# Altium footprint library SOIC_127P_N.PcbLib: 49 footprints (part 2 of 4)
Each footprint in its own frame and in the unit in brackets; x right, y up, seen from the top. Pads: shape width x height; smd on the part's side, far side on the other; paste and mask are expansions set on the pad; w line width, h text height; cw(c..) or ccw(c..) is an arc to the next point about the centre after c.
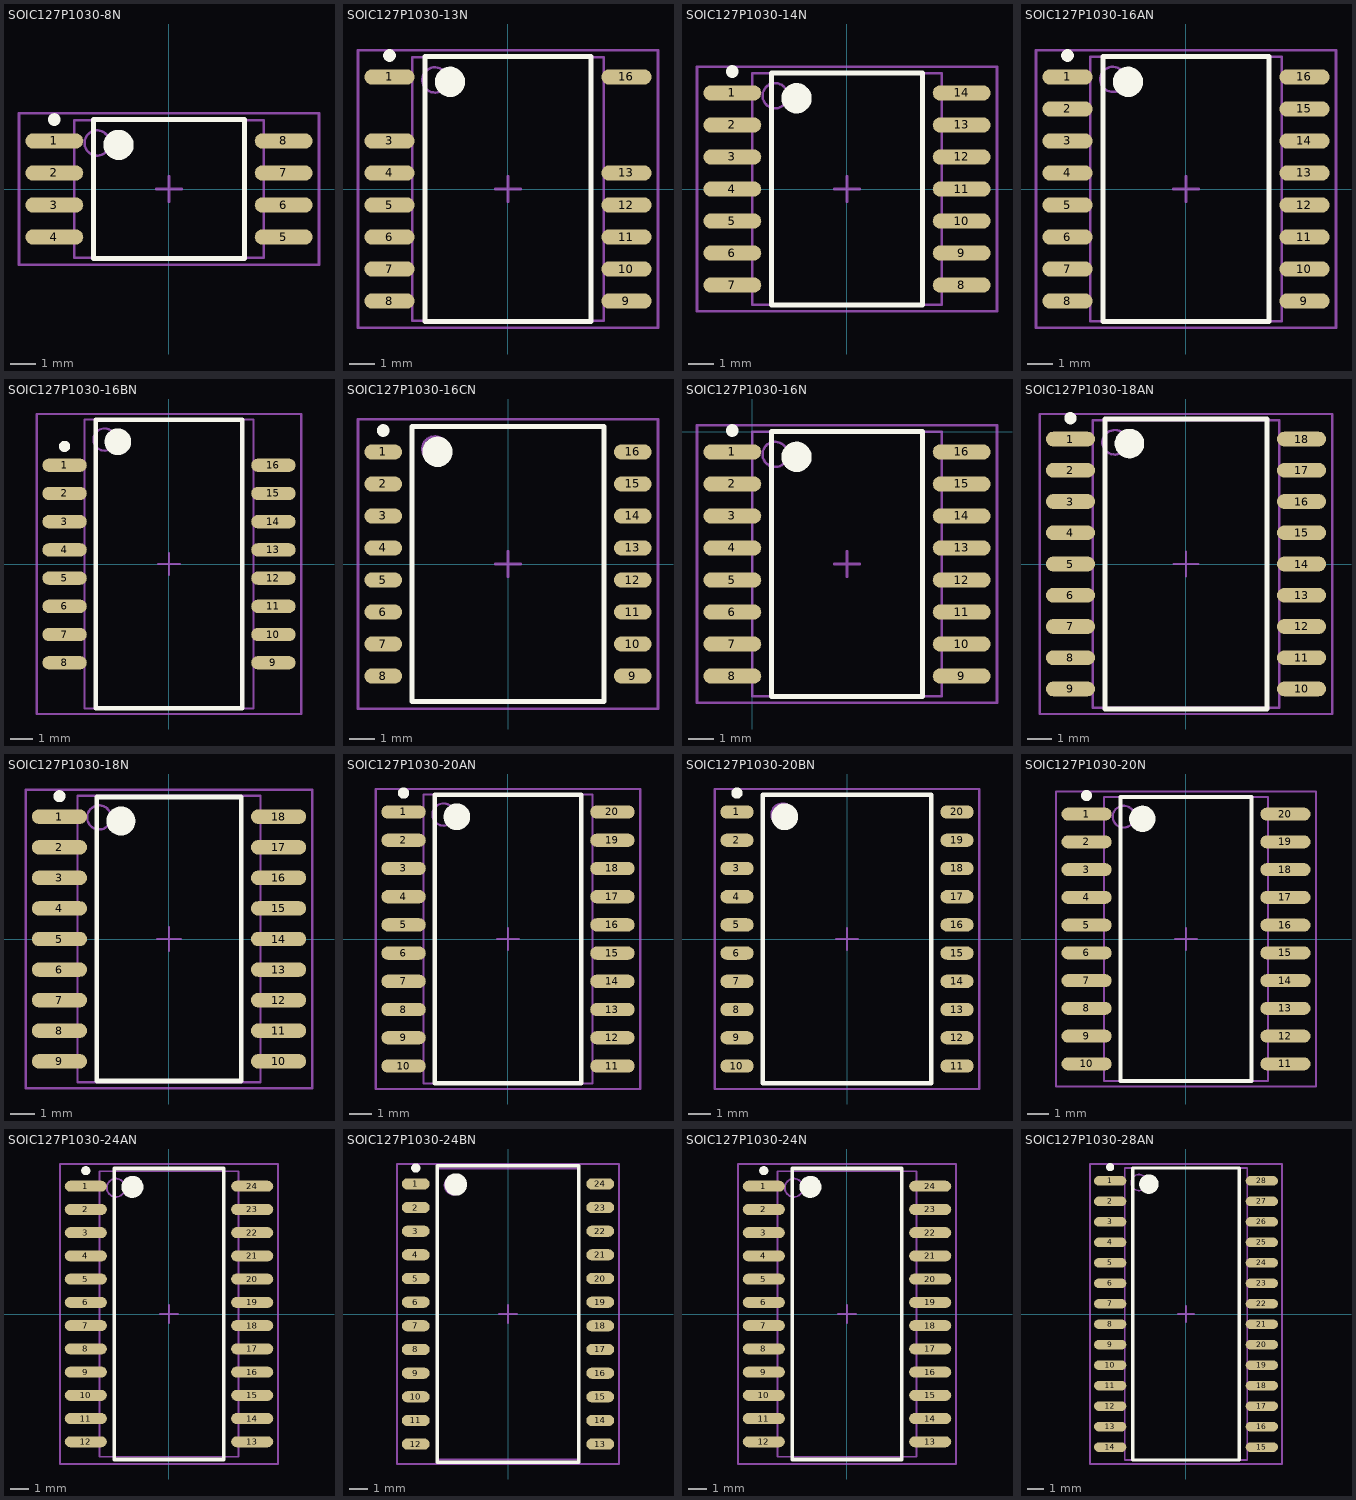
[diagram p1: the footprints below, top view; thin cyan lines are the x and y axes]

## SOIC127P1030-8N [mm] "SOIC, 8-Leads, Body 5.3x7.5mm, Pitch 1.27mm, IPC Medium Density"
height 2.65
pads (8):
  oval 2.3x0.6 smd: 1(-4.55,1.905) 2(-4.55,0.635) 3(-4.55,-0.635) 4(-4.55,-1.905) 5(4.55,-1.905) 6(4.55,-0.635) 7(4.55,0.635) 8(4.55,1.905)
Top Overlay:
  circle w0.6: c-2,1.75 r0.3
  circle w0.25: c-4.55,2.755 r0.125
  lines w0.2: -3,-2.75 3,-2.75 3,2.75 -3,2.75 -3,-2.75
Mechanical 13:
  circle w0.1: c-2.85,1.825 r0.5
  lines w0.1: -3.75,-2.725 3.75,-2.725 3.75,2.725 -3.75,2.725 -3.75,-2.725
Mechanical 15:
  lines w0.1: -0.5,0 0.5,0 ; 0,-0.5 0,0.5 ; -5.95,-3 5.95,-3 5.95,3 -5.95,3 -5.95,-3
3D body: height 2.65, standoff 0, extent -3.75,-2.725 3.75,2.725

## SOIC127P1030-13N [mm] "SOIC, 16-Leads (3 Absent), Body 10.3x7.5 mm, Pitch 1.27mm, IPC Medium Density"
height 2.65
pads (13):
  oval 2x0.6 smd: 1(-4.7,4.445) 3(-4.7,1.905) 4(-4.7,0.635) 5(-4.7,-0.635) 6(-4.7,-1.905) 7(-4.7,-3.175) 8(-4.7,-4.445) 9(4.7,-4.445) 10(4.7,-3.175) 11(4.7,-1.905) 12(4.7,-0.635) 13(4.7,0.635) 16(4.7,4.445)
Top Overlay:
  circle w0.25: c-4.7,5.295 r0.125
  circle w0.6: c-2.3,4.25 r0.3
  lines w0.2: -3.3,-5.25 -3.3,5.25 3.3,5.25 3.3,-5.25 -3.3,-5.25
Mechanical 13:
  circle w0.1: c-2.9,4.325 r0.5
  lines w0.1: -3.8,-5.225 -3.8,5.225 3.8,5.225 3.8,-5.225 -3.8,-5.225
Mechanical 15:
  lines w0.1: -0.5,0 0.5,0 ; 0,-0.5 0,0.5 ; -5.95,-5.5 -5.95,5.5 5.95,5.5 5.95,-5.5 -5.95,-5.5
3D body: height 2.65, standoff 0, extent -3.8,-5.225 3.8,5.225

## SOIC127P1030-14N [mm] "SOIC, 14-Leads, Body 9x7.5mm, Pitch 1.27mm, IPC Medium Density"
height 2.65
pads (14):
  oval 2.3x0.6 smd: 1(-4.55,3.81) 2(-4.55,2.54) 3(-4.55,1.27) 4(-4.55,0) 5(-4.55,-1.27) 6(-4.55,-2.54) 7(-4.55,-3.81) 8(4.55,-3.81) 9(4.55,-2.54) 10(4.55,-1.27) 11(4.55,0) 12(4.55,1.27) 13(4.55,2.54) 14(4.55,3.81)
Top Overlay:
  circle w0.25: c-4.55,4.66 r0.125
  circle w0.6: c-2,3.6 r0.3
  lines w0.2: -3,-4.6 -3,4.6 3,4.6 3,-4.6 -3,-4.6
Mechanical 13:
  circle w0.1: c-2.85,3.7 r0.5
  lines w0.1: -3.75,-4.6 -3.75,4.6 3.75,4.6 3.75,-4.6 -3.75,-4.6
Mechanical 15:
  lines w0.1: -0.5,0 0.5,0 ; 0,-0.5 0,0.5 ; -5.95,-4.85 -5.95,4.85 5.95,4.85 5.95,-4.85 -5.95,-4.85
3D body: height 2.65, standoff 0, extent -3.75,-4.6 3.75,4.6

## SOIC127P1030-16AN [mm] "SOIC, 16-Leads, Body 10.3x7.5mm, Pitch 1.27mm, IPC Medium Density"
height 2.67
pads (16):
  oval 2x0.6 smd: 1(-4.7,4.445) 2(-4.7,3.175) 3(-4.7,1.905) 4(-4.7,0.635) 5(-4.7,-0.635) 6(-4.7,-1.905) 7(-4.7,-3.175) 8(-4.7,-4.445) 9(4.7,-4.445) 10(4.7,-3.175) 11(4.7,-1.905) 12(4.7,-0.635) 13(4.7,0.635) 14(4.7,1.905) 15(4.7,3.175) 16(4.7,4.445)
Top Overlay:
  circle w0.25: c-4.7,5.295 r0.125
  circle w0.6: c-2.3,4.25 r0.3
  lines w0.2: -3.3,-5.25 -3.3,5.25 3.3,5.25 3.3,-5.25 -3.3,-5.25
Mechanical 13:
  circle w0.1: c-2.9,4.35 r0.5
  lines w0.1: -3.8,-5.25 -3.8,5.25 3.8,5.25 3.8,-5.25 -3.8,-5.25
Mechanical 15:
  lines w0.1: -0.5,0 0.5,0 ; 0,-0.5 0,0.5 ; -5.95,-5.5 -5.95,5.5 5.95,5.5 5.95,-5.5 -5.95,-5.5
3D body: height 2.67, standoff 0, extent -3.8,-5.25 3.8,5.25

## SOIC127P1030-16BN [mm] "SOIC, 16-Leads, Body 12.8x7.5mm, Pitch 1.27mm, IPC Medium Density"
height 2.68
pads (16):
  oval 2x0.6 smd: 1(-4.7,4.445) 2(-4.7,3.175) 3(-4.7,1.905) 4(-4.7,0.635) 5(-4.7,-0.635) 6(-4.7,-1.905) 7(-4.7,-3.175) 8(-4.7,-4.445) 9(4.7,-4.445) 10(4.7,-3.175) 11(4.7,-1.905) 12(4.7,-0.635) 13(4.7,0.635) 14(4.7,1.905) 15(4.7,3.175) 16(4.7,4.445)
Top Overlay:
  circle w0.6: c-2.3,5.5 r0.3
  circle w0.25: c-4.7,5.295 r0.125
  lines w0.2: -3.3,-6.5 3.3,-6.5 3.3,6.5 -3.3,6.5 -3.3,-6.5
Mechanical 13:
  circle w0.1: c-2.9,5.6 r0.5
  lines w0.1: -3.8,-6.5 3.8,-6.5 3.8,6.5 -3.8,6.5 -3.8,-6.5
Mechanical 15:
  lines w0.1: -0.5,0 0.5,0 ; 0,-0.5 0,0.5 ; -5.95,-6.75 5.95,-6.75 5.95,6.75 -5.95,6.75 -5.95,-6.75
3D body: height 2.68, standoff 0, extent -3.8,-6.5 3.8,6.5

## SOIC127P1030-16CN [mm] "SOIC, 16-Leads, Body 10.5x7.5mm, Pitch 1.27mm, IPC Medium Density"
height 2.65
pads (16):
  oval 1.5x0.6 smd: 1(-4.95,4.445) 2(-4.95,3.175) 3(-4.95,1.905) 4(-4.95,0.635) 5(-4.95,-0.635) 6(-4.95,-1.905) 7(-4.95,-3.175) 8(-4.95,-4.445) 9(4.95,-4.445) 10(4.95,-3.175) 11(4.95,-1.905) 12(4.95,-0.635) 13(4.95,0.635) 14(4.95,1.905) 15(4.95,3.175) 16(4.95,4.445)
Top Overlay:
  circle w0.25: c-4.95,5.295 r0.125
  circle w0.6: c-2.8,4.45 r0.3
  lines w0.2: -3.8,-5.45 -3.8,5.45 3.8,5.45 3.8,-5.45 -3.8,-5.45
Mechanical 13:
  circle w0.1: c-2.9,4.56 r0.5
  lines w0.1: -3.8,-5.46 -3.8,5.46 3.8,5.46 3.8,-5.46 -3.8,-5.46
Mechanical 15:
  lines w0.1: -0.5,0 0.5,0 ; 0,-0.5 0,0.5 ; -5.95,-5.75 -5.95,5.75 5.95,5.75 5.95,-5.75 -5.95,-5.75
3D body: height 2.65, standoff 0, extent -3.8,-5.46 3.8,5.46

## SOIC127P1030-16N [mm] "SOIC, 16-Leads, Body 10.3x7.5mm, Pitch 1.27mm, IPC Medium Density"
height 2.65
pads (16):
  oval 2.3x0.6 smd: 1(-0.8,-0.8) 2(-0.8,-2.07) 3(-0.8,-3.34) 4(-0.8,-4.61) 5(-0.8,-5.88) 6(-0.8,-7.15) 7(-0.8,-8.42) 8(-0.8,-9.69) 9(8.3,-9.69) 10(8.3,-8.42) 11(8.3,-7.15) 12(8.3,-5.88) 13(8.3,-4.61) 14(8.3,-3.34) 15(8.3,-2.07) 16(8.3,-0.8)
Top Overlay:
  circle w0.6: c1.75,-0.995 r0.3
  circle w0.25: c-0.8,0.05 r0.125
  lines w0.2: 0.75,-10.495 6.75,-10.495 6.75,0.005 0.75,0.005 0.75,-10.495
Mechanical 13:
  circle w0.1: c0.9,-0.895 r0.5
  lines w0.1: 0,-10.495 7.5,-10.495 7.5,0.005 0,0.005 0,-10.495
Mechanical 15:
  lines w0.1: 3.25,-5.245 4.25,-5.245 ; 3.75,-5.745 3.75,-4.745 ; -2.2,-10.745 9.7,-10.745 9.7,0.255 -2.2,0.255 -2.2,-10.745
3D body: height 2.65, standoff 0, extent 0,-10.495 7.5,0.005

## SOIC127P1030-18AN [mm] "SOIC, 18-Leads, Body 11.6x7.5mm, Pitch 1.27mm, IPC Medium Density"
height 2.65
pads (18):
  oval 2x0.6 smd: 1(-4.7,5.08) 2(-4.7,3.81) 3(-4.7,2.54) 4(-4.7,1.27) 5(-4.7,0) 6(-4.7,-1.27) 7(-4.7,-2.54) 8(-4.7,-3.81) 9(-4.7,-5.08) 10(4.7,-5.08) 11(4.7,-3.81) 12(4.7,-2.54) 13(4.7,-1.27) 14(4.7,0) 15(4.7,1.27) 16(4.7,2.54) 17(4.7,3.81) 18(4.7,5.08)
Top Overlay:
  circle w0.6: c-2.3,4.9 r0.3
  circle w0.25: c-4.7,5.93 r0.125
  lines w0.2: -3.3,-5.9 3.3,-5.9 3.3,5.9 -3.3,5.9 -3.3,-5.9
Mechanical 13:
  circle w0.1: c-2.9,4.95 r0.5
  lines w0.1: -3.8,-5.85 3.8,-5.85 3.8,5.85 -3.8,5.85 -3.8,-5.85
Mechanical 15:
  lines w0.1: -0.5,0 0.5,0 ; 0,-0.5 0,0.5 ; -5.95,-6.1 5.95,-6.1 5.95,6.1 -5.95,6.1 -5.95,-6.1
3D body: height 2.65, standoff 0, extent -3.8,-5.85 3.8,5.85

## SOIC127P1030-18N [mm] "SOIC, 18-Leads, Body 11.6x7.5mm, Pitch 1.27mm, IPC Medium Density"
height 2.65
pads (18):
  oval 2.3x0.6 smd: 1(-4.55,5.08) 2(-4.55,3.81) 3(-4.55,2.54) 4(-4.55,1.27) 5(-4.55,0) 6(-4.55,-1.27) 7(-4.55,-2.54) 8(-4.55,-3.81) 9(-4.55,-5.08) 10(4.55,-5.08) 11(4.55,-3.81) 12(4.55,-2.54) 13(4.55,-1.27) 14(4.55,0) 15(4.55,1.27) 16(4.55,2.54) 17(4.55,3.81) 18(4.55,5.08)
Top Overlay:
  circle w0.6: c-2,4.9 r0.3
  circle w0.25: c-4.55,5.93 r0.125
  lines w0.2: -3,-5.9 3,-5.9 3,5.9 -3,5.9 -3,-5.9
Mechanical 13:
  circle w0.1: c-2.9,5.05 r0.5
  lines w0.1: -3.8,-5.95 3.8,-5.95 3.8,5.95 -3.8,5.95 -3.8,-5.95
Mechanical 15:
  lines w0.1: -0.5,0 0.5,0 ; 0,-0.5 0,0.5 ; -5.95,-6.2 5.95,-6.2 5.95,6.2 -5.95,6.2 -5.95,-6.2
3D body: height 2.65, standoff 0, extent -3.8,-5.95 3.8,5.95

## SOIC127P1030-20AN [mm] "SOIC, 20-Leads, Body 12.8x7.5mm, Pitch 1.27mm, IPC Medium Density"
height 2.67
pads (20):
  oval 2x0.6 smd: 1(-4.7,5.715) 2(-4.7,4.445) 3(-4.7,3.175) 4(-4.7,1.905) 5(-4.7,0.635) 6(-4.7,-0.635) 7(-4.7,-1.905) 8(-4.7,-3.175) 9(-4.7,-4.445) 10(-4.7,-5.715) 11(4.7,-5.715) 12(4.7,-4.445) 13(4.7,-3.175) 14(4.7,-1.905) 15(4.7,-0.635) 16(4.7,0.635) 17(4.7,1.905) 18(4.7,3.175) 19(4.7,4.445) 20(4.7,5.715)
Top Overlay:
  circle w0.6: c-2.3,5.5 r0.3
  circle w0.25: c-4.7,6.565 r0.125
  lines w0.2: -3.3,-6.5 3.3,-6.5 3.3,6.5 -3.3,6.5 -3.3,-6.5
Mechanical 13:
  circle w0.1: c-2.9,5.6 r0.5
  lines w0.1: -3.8,-6.5 3.8,-6.5 3.8,6.5 -3.8,6.5 -3.8,-6.5
Mechanical 15:
  lines w0.1: -0.5,0 0.5,0 ; 0,-0.5 0,0.5 ; -5.95,-6.75 5.95,-6.75 5.95,6.75 -5.95,6.75 -5.95,-6.75
3D body: height 2.67, standoff 0, extent -3.8,-6.5 3.8,6.5

## SOIC127P1030-20BN [mm] "SOIC, 20-Leads, Body 12.8x7.5mm, Pitch 1.27mm, IPC Medium Density"
height 2.65
pads (20):
  oval 1.5x0.6 smd: 1(-4.95,5.715) 2(-4.95,4.445) 3(-4.95,3.175) 4(-4.95,1.905) 5(-4.95,0.635) 6(-4.95,-0.635) 7(-4.95,-1.905) 8(-4.95,-3.175) 9(-4.95,-4.445) 10(-4.95,-5.715) 11(4.95,-5.715) 12(4.95,-4.445) 13(4.95,-3.175) 14(4.95,-1.905) 15(4.95,-0.635) 16(4.95,0.635) 17(4.95,1.905) 18(4.95,3.175) 19(4.95,4.445) 20(4.95,5.715)
Top Overlay:
  circle w0.6: c-2.8,5.5 r0.3
  circle w0.25: c-4.95,6.565 r0.125
  lines w0.2: -3.8,-6.5 3.8,-6.5 3.8,6.5 -3.8,6.5 -3.8,-6.5
Mechanical 13:
  circle w0.1: c-2.9,5.6 r0.5
  lines w0.1: -3.8,-6.5 3.8,-6.5 3.8,6.5 -3.8,6.5 -3.8,-6.5
Mechanical 15:
  lines w0.1: -0.5,0 0.5,0 ; 0,-0.5 0,0.5 ; -5.95,-6.75 5.95,-6.75 5.95,6.75 -5.95,6.75 -5.95,-6.75
3D body: height 2.65, standoff 0, extent -3.8,-6.5 3.8,6.5

## SOIC127P1030-20N [mm] "SOIC, 20-Leads, Body 12.8x7.5mm, Pitch 1.27mm, IPC Medium Density"
height 2.65
pads (20):
  oval 2.3x0.6 smd: 1(-4.55,5.715) 2(-4.55,4.445) 3(-4.55,3.175) 4(-4.55,1.905) 5(-4.55,0.635) 6(-4.55,-0.635) 7(-4.55,-1.905) 8(-4.55,-3.175) 9(-4.55,-4.445) 10(-4.55,-5.715) 11(4.55,-5.715) 12(4.55,-4.445) 13(4.55,-3.175) 14(4.55,-1.905) 15(4.55,-0.635) 16(4.55,0.635) 17(4.55,1.905) 18(4.55,3.175) 19(4.55,4.445) 20(4.55,5.715)
Top Overlay:
  circle w0.25: c-4.55,6.565 r0.125
  circle w0.6: c-2,5.5 r0.3
  lines w0.2: -3,-6.5 -3,6.5 3,6.5 3,-6.5 -3,-6.5
Mechanical 13:
  circle w0.1: c-2.85,5.6 r0.5
  lines w0.1: -3.75,-6.5 -3.75,6.5 3.75,6.5 3.75,-6.5 -3.75,-6.5
Mechanical 15:
  lines w0.1: -0.5,0 0.5,0 ; 0,-0.5 0,0.5 ; -5.95,-6.75 -5.95,6.75 5.95,6.75 5.95,-6.75 -5.95,-6.75
3D body: height 2.65, standoff 0, extent -3.75,-6.5 3.75,6.5

## SOIC127P1030-24AN [mm] "SOIC, 24-Leads, Body 15.4x7.5mm, Pitch 1.27mm, IPC Medium Density"
height 2.65
pads (24):
  oval 2.3x0.6 smd: 1(-4.55,6.985) 2(-4.55,5.715) 3(-4.55,4.445) 4(-4.55,3.175) 5(-4.55,1.905) 6(-4.55,0.635) 7(-4.55,-0.635) 8(-4.55,-1.905) 9(-4.55,-3.175) 10(-4.55,-4.445) 11(-4.55,-5.715) 12(-4.55,-6.985) 13(4.55,-6.985) 14(4.55,-5.715) 15(4.55,-4.445) 16(4.55,-3.175) 17(4.55,-1.905) 18(4.55,-0.635) 19(4.55,0.635) 20(4.55,1.905) 21(4.55,3.175) 22(4.55,4.445) 23(4.55,5.715) 24(4.55,6.985)
Top Overlay:
  circle w0.6: c-2,6.95 r0.3
  circle w0.25: c-4.55,7.835 r0.125
  lines w0.2: -3,-7.95 3,-7.95 3,7.95 -3,7.95 -3,-7.95
Mechanical 13:
  circle w0.1: c-2.9,6.9 r0.5
  lines w0.1: -3.8,-7.8 3.8,-7.8 3.8,7.8 -3.8,7.8 -3.8,-7.8
Mechanical 15:
  lines w0.1: -0.5,0 0.5,0 ; 0,-0.5 0,0.5 ; -5.95,-8.2 5.95,-8.2 5.95,8.2 -5.95,8.2 -5.95,-8.2
3D body: height 2.65, standoff 0, extent -3.8,-7.8 3.8,7.8

## SOIC127P1030-24BN [mm] "SOIC, 24-Leads, Body 15.4x7.5mm, Pitch 1.27mm, IPC Medium Density"
height 2.65
pads (24):
  oval 1.5x0.6 smd: 1(-4.95,6.985) 2(-4.95,5.715) 3(-4.95,4.445) 4(-4.95,3.175) 5(-4.95,1.905) 6(-4.95,0.635) 7(-4.95,-0.635) 8(-4.95,-1.905) 9(-4.95,-3.175) 10(-4.95,-4.445) 11(-4.95,-5.715) 12(-4.95,-6.985) 13(4.95,-6.985) 14(4.95,-5.715) 15(4.95,-4.445) 16(4.95,-3.175) 17(4.95,-1.905) 18(4.95,-0.635) 19(4.95,0.635) 20(4.95,1.905) 21(4.95,3.175) 22(4.95,4.445) 23(4.95,5.715) 24(4.95,6.985)
Top Overlay:
  circle w0.6: c-2.8,6.95 r0.3
  circle w0.25: c-4.95,7.835 r0.125
  lines w0.2: -3.8,-7.95 3.8,-7.95 3.8,7.95 -3.8,7.95 -3.8,-7.95
Mechanical 13:
  circle w0.1: c-2.9,6.9 r0.5
  lines w0.1: -3.8,-7.8 3.8,-7.8 3.8,7.8 -3.8,7.8 -3.8,-7.8
Mechanical 15:
  lines w0.1: -0.5,0 0.5,0 ; 0,-0.5 0,0.5 ; -5.95,-8.05 5.95,-8.05 5.95,8.05 -5.95,8.05 -5.95,-8.05
3D body: height 2.65, standoff 0, extent -3.8,-7.8 3.8,7.8

## SOIC127P1030-24N [mm] "SOIC, 24-Leads, Body 15.4x7.5mm, Pitch 1.27mm, IPC Medium Density"
height 2.65
pads (24):
  oval 2.3x0.6 smd: 1(-4.55,6.985) 2(-4.55,5.715) 3(-4.55,4.445) 4(-4.55,3.175) 5(-4.55,1.905) 6(-4.55,0.635) 7(-4.55,-0.635) 8(-4.55,-1.905) 9(-4.55,-3.175) 10(-4.55,-4.445) 11(-4.55,-5.715) 12(-4.55,-6.985) 13(4.55,-6.985) 14(4.55,-5.715) 15(4.55,-4.445) 16(4.55,-3.175) 17(4.55,-1.905) 18(4.55,-0.635) 19(4.55,0.635) 20(4.55,1.905) 21(4.55,3.175) 22(4.55,4.445) 23(4.55,5.715) 24(4.55,6.985)
Top Overlay:
  circle w0.25: c-4.55,7.835 r0.125
  circle w0.6: c-2,6.95 r0.3
  lines w0.2: -3,-7.95 -3,7.95 3,7.95 3,-7.95 -3,-7.95
Mechanical 13:
  circle w0.1: c-2.9,6.9 r0.5
  lines w0.1: -3.8,-7.8 -3.8,7.8 3.8,7.8 3.8,-7.8 -3.8,-7.8
Mechanical 15:
  lines w0.1: -0.5,0 0.5,0 ; 0,-0.5 0,0.5 ; -5.95,-8.2 -5.95,8.2 5.95,8.2 5.95,-8.2 -5.95,-8.2
3D body: height 2.65, standoff 0, extent -3.8,-7.8 3.8,7.8

## SOIC127P1030-28AN [mm] "SOIC, 28-Leads, Body 17.9x7.5mm, Pitch 1.27mm, IPC Medium Density"
height 2.65
pads (28):
  oval 2x0.6 smd: 1(-4.7,8.255) 2(-4.7,6.985) 3(-4.7,5.715) 4(-4.7,4.445) 5(-4.7,3.175) 6(-4.7,1.905) 7(-4.7,0.635) 8(-4.7,-0.635) 9(-4.7,-1.905) 10(-4.7,-3.175) 11(-4.7,-4.445) 12(-4.7,-5.715) 13(-4.7,-6.985) 14(-4.7,-8.255) 15(4.7,-8.255) 16(4.7,-6.985) 17(4.7,-5.715) 18(4.7,-4.445) 19(4.7,-3.175) 20(4.7,-1.905) 21(4.7,-0.635) 22(4.7,0.635) 23(4.7,1.905) 24(4.7,3.175) 25(4.7,4.445) 26(4.7,5.715) 27(4.7,6.985) 28(4.7,8.255)
Top Overlay:
  circle w0.6: c-2.3,8.05 r0.3
  circle w0.25: c-4.7,9.105 r0.125
  lines w0.2: -3.3,-9.05 3.3,-9.05 3.3,9.05 -3.3,9.05 -3.3,-9.05
Mechanical 13:
  circle w0.1: c-2.9,8.15 r0.5
  lines w0.1: -3.8,-9.05 3.8,-9.05 3.8,9.05 -3.8,9.05 -3.8,-9.05
Mechanical 15:
  lines w0.1: -0.5,0 0.5,0 ; 0,-0.5 0,0.5 ; -5.95,-9.3 5.95,-9.3 5.95,9.3 -5.95,9.3 -5.95,-9.3
3D body: height 2.65, standoff 0, extent -3.8,-9.05 3.8,9.05